# EAGLE library part MC34119 (library Audio-Power-amlifier V.2.0)
The MC34119 is a MOTOROLA low power audio amplifier intergrated circuit intended (primarily) for telephone applications, such as in speakerphones. It provides differential speaker outputs to maximize output swing at low supply voltages (2.0 V minimum). Coupling capacitors to the speaker are not required. Open loop gain is 80 dB, and the closed loop gain is set with two external resistors. A Chip Disable pin permits powering down and/or muting the input signal.
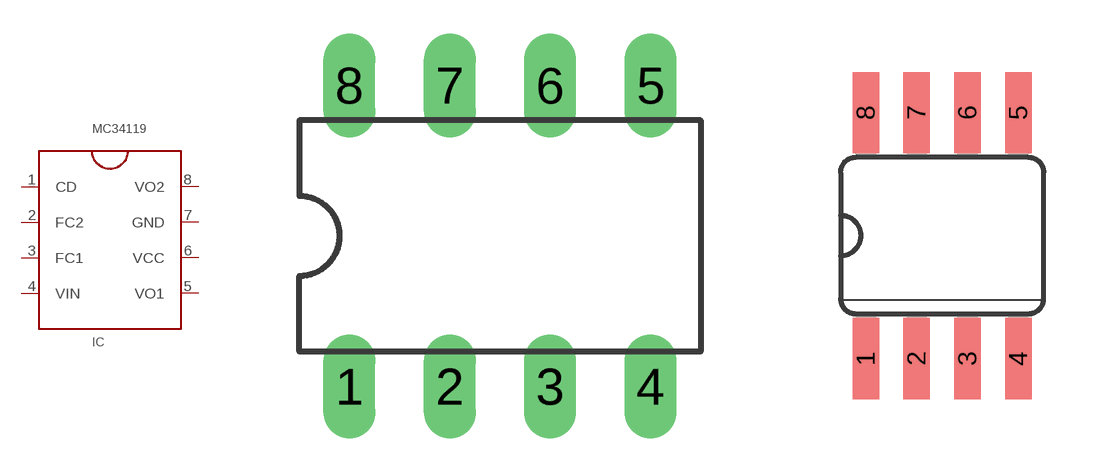
[diagram p97: symbol with the pads of DIL08; footprints DIL08, SO8]

Designator prefix IC

## MC34119MC34119P  [DIL08]
1  CD  in
2  FC2
3  FC1
4  VIN  in
5  VO1  out
6  VCC  pwr
7  GND  pwr
8  VO2  out

## MC34119MC34119D  [SO8]
Pads as for DIL08

## MC34119MC34119DTB  [TSSOP8]
Pads as for DIL08

## Footprint DIL08 (pad centres in mm)
Dual In Line Package
drill 0.813 pad 1.27 long: 1 -3.81,-3.81; 2 -1.27,-3.81; 3 1.27,-3.81; 4 3.81,-3.81; 5 3.81,3.81; 6 1.27,3.81; 7 -1.27,3.81; 8 -3.81,3.81

## Footprint SO8 (pad centres in mm)
smd 0.66 x 2.032: 1 -1.905,-3.073; 2 -0.635,-3.073; 3 0.635,-3.073; 4 1.905,-3.073; 5 1.905,3.073; 6 0.635,3.073; 7 -0.635,3.073; 8 -1.905,3.073

## Footprint TSSOP8 (pad centres in mm)
Thin Shrink Small Outline Package package type ST
smd 0.35 x 1.2: 1 -0.975,-2.925; 2 -0.325,-2.925; 3 0.325,-2.925; 4 0.975,-2.925; 5 0.975,2.925; 6 0.325,2.925; 7 -0.325,2.925; 8 -0.975,2.925